# EAGLE library part WE-FB_EP10_SCH1 (library WE-FB)
WE-FB Flyback Transformer suitable for LT3573/ LT3574/ LT3575/ LT3748 Characteristics Easy design-in solution Less external components needed Small board space Low cost No optocoupler needed! Long term reliability voltage control No aging Same external parts for different output voltages Easy design of custom power supply due to standard circuit and change of transformers and two components for feedback loop Isolation voltage up to 2.5 kV Applications Isolated power design Sensor interfaces Isolated telecom converters Power over Ethernet <https://www.we-online.com/catalog/media/o35283v209%20Family_we-fb_LT%20Kits_gruppe.jpg> Details see: www.we-online.com/catalog/WE-FB <www.we-online.com/catalog/WE-FB/?utm_source=eagle_model&utm_medium=description_link&utm_campaign=eisos_eagle> Updated by Ella Wu 2022-07-21 2022 Wurth Elektronik
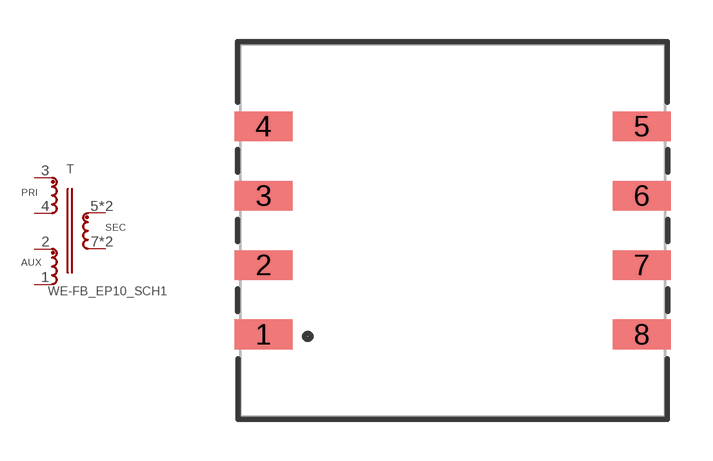
[diagram p9: symbol with the pads of WE-FB_EP10; footprint WE-FB_EP10]

Designator prefix T

## WE-FB_EP10_SCH1_750310471 (DATASHEET-URL: https://www.we-online.com/redexpert/spec/750310471?ae; IOUT: 2A; ISAT: 2.6A; L: 25uH; LSMIN: 0.43uH; MOUNT: SMT; N: 3:1; PART-NUMBER: 750310471; VALUE: 750310471; VIN: 9-30V(DC); VOUT: 5V; VT: 1500V(AC)), WE-FB_EP10_SCH1_750310559 (DATASHEET-URL: https://www.we-online.com/redexpert/spec/750310559?ae; IOUT: 1.5A; ISAT: 2.1A; L: 24uH; LSMIN: 0.5uH; MOUNT: SMT; N: 4:1; PART-NUMBER: 750310559; VALUE: 750310559; VIN: 12-30V(DC); VOUT: 3.3V; VT: 1500V(AC)), WE-FB_EP10_SCH1_750310562 (DATASHEET-URL: https://www.we-online.com/redexpert/spec/750310562?ae; IOUT: 0.8A; ISAT: 2.8A; L: 25uH; LSMIN: 0.5uH; MOUNT: SMT; N: 2:1; PART-NUMBER: 750310562; VALUE: 750310562; VIN: 18-30V(DC); VOUT: 12V; VT: 1500V(AC)), WE-FB_EP10_SCH1_750310563 (DATASHEET-URL: https://www.we-online.com/redexpert/spec/750310563?ae; IOUT: 0.8A; ISAT: 2.8A; L: 25uH; LSMIN: 0.5uH; MOUNT: SMT; N: 1:1; PART-NUMBER: 750310563; VALUE: 750310563; VIN: 18-30V(DC); VOUT: 12V; VT: 1500V(AC)), WE-FB_EP10_SCH1_750311303 (DATASHEET-URL: https://www.we-online.com/redexpert/spec/750311303?ae; IOUT: 3A; ISAT: 2.25A; L: 50uH; LSMIN: 0.8uH; MOUNT: SMT; N: 5:1; PART-NUMBER: 750311303; VALUE: 750311303; VIN: 9-30V(DC); VOUT: 5V; VT: 1500V(AC)), WE-FB_EP10_SCH1_750311304 (DATASHEET-URL: https://www.we-online.com/redexpert/spec/750311304?ae; IOUT: 3A; ISAT: 2.4A; L: 50uH; LSMIN: 0.85uH; MOUNT: SMT; N: 4:1; PART-NUMBER: 750311304; VALUE: 750311304; VIN: 9-30V(DC); VOUT: 5V; VT: 1500V(AC)), WE-FB_EP10_SCH1_750311305 (DATASHEET-URL: https://www.we-online.com/redexpert/spec/750311305?ae; IOUT: 1A; ISAT: 2.8A; L: 50uH; LSMIN: 1.2uH; MOUNT: SMT; N: 3:1; PART-NUMBER: 750311305; VALUE: 750311305; VIN: 9-30V(DC); VOUT: 12V; VT: 1500V(AC)), WE-FB_EP10_SCH1_750311306 (DATASHEET-URL: https://www.we-online.com/redexpert/spec/750311306?ae; IOUT: 1A; ISAT: 1.65A; L: 100uH; LSMIN: 1.75uH; MOUNT: SMT; N: 3:1; PART-NUMBER: 750311306; VALUE: 750311306; VIN: 9-30V(DC); VOUT: 12V; VT: 1500V(AC)), WE-FB_EP10_SCH1_750311307 (DATASHEET-URL: https://www.we-online.com/redexpert/spec/750311307?ae; IOUT: 0.5A; ISAT: 1.9A; L: 100uH; LSMIN: 2uH; MOUNT: SMT; N: 2:1; PART-NUMBER: 750311307; VALUE: 750311307; VIN: 9-30V(DC); VOUT: 24V; VT: 1500V(AC)), WE-FB_EP10_SCH1_750311308 (DATASHEET-URL: https://www.we-online.com/redexpert/spec/750311308?ae; IOUT: 0.5A; ISAT: 2.1A; L: 100uH; LSMIN: 2.1uH; MOUNT: SMT; N: 1:1; PART-NUMBER: 750311308; VALUE: 750311308; VIN: 9-30V(DC); VOUT: 24V; VT: 1500V(AC)), WE-FB_EP10_SCH1_750311675 (DATASHEET-URL: https://www.we-online.com/redexpert/spec/750311675?ae; IOUT: 2A; ISAT: 2.5A; L: 25uH; LSMIN: 0.13uH; MOUNT: SMT; N: 3:1; PART-NUMBER: 750311675; VALUE: 750311675; VIN: 9-30V(DC); VOUT: 5V; VT: 1500V(AC))  [WE-FB_EP10]
1  4  pas
2  3  pas
3  1  pas
4  2  pas
5  6  pas
6  6  pas
7  5  pas
8  5  pas

## Footprint WE-FB_EP10 (pad centres in mm)
WE-FB Flyback Transformer suitable for LT3573/ LT3574/ LT3575/ LT3748 Size: EP10 SMD 6Pin
smd 2.08 x 1.07: 1 -6.78,-3.735; 2 -6.78,-1.245; 3 -6.78,1.245; 4 -6.78,3.735; 5 6.78,3.735; 6 6.78,1.245; 7 6.78,-1.245; 8 6.78,-3.735